# EAGLE library part WE-FLEX_EFD15 (library Eagle_WE-FLEX (rev24a))
WE-FLEX Flexible Transformer for DC/DC Converter Characteristics Transformer with 6 identical windings 4 sizes with 5 different lengths of air gap each Isolation voltage 500 VDC Low leakage inductance Operating temperature: –40 ºC to +125 ºC By using different circuits more than 375 transformer solutions and about 125 choke solutions possible. Consequently, quick prototyping possibilities Applications All kind of switching regulators - Flyback converters - Forward converters - Push-pull converters - Step-up/step-down converters - SEPIC converter <https://www.we-online.com/components/media/o14787v209%20Family_WE-FLEX.jpg> Details see: www.we-online.com/en/components/products/WE-FLEX <www.we-online.com/catalog/WE-FLEX/?utm_source=eagle_model&utm_medium=description_link&utm_campaign=eisos_eagle> Updated by Ella 2024-09-27 2024 (C) Wurth Elektronik
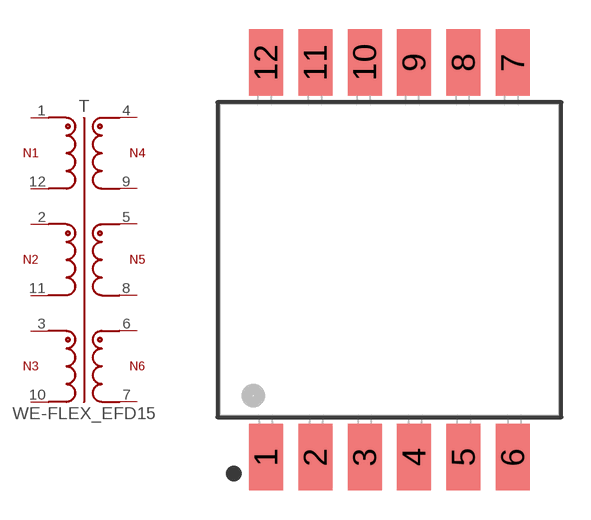
[diagram p0: symbol with the pads of WE-FLEX_EFD15; footprint WE-FLEX_EFD15]

Designator prefix T

## WE-FLEX_EFD15_749196301 (DATASHEET-URL: https://www.we-online.com/redexpert/spec/749196301?ae; HEIGHT: 8.3mm; IRBASE: 0.97A; ISATBASE: 0.02A; LENGTH: 17.5mm; LSBASE: 0.13uH; N: 1:1:1:1:1:1; PART-NUMBER: 749196301; RDCBASE: 140mOhm; SIZE: EFD15; TYPE: ungapped; VALUE: 153.8uH; VOLTAGE-USECONDBASE: 39.8uVs; VT: 500V (AC); WIDTH: 22.1mm), WE-FLEX_EFD15_749196311 (DATASHEET-URL: https://www.we-online.com/redexpert/spec/749196311?ae; HEIGHT: 8.3mm; IRBASE: 0.97A; ISATBASE: 0.33A; LENGTH: 17.5mm; LSBASE: 0.13uH; N: 1:1:1:1:1:1; PART-NUMBER: 749196311; RDCBASE: 140mOhm; SIZE: EFD15; TYPE: gapped; VALUE: 23.3uH; VOLTAGE-USECONDBASE: 39.8uVs; VT: 500V (AC); WIDTH: 22.1mm), WE-FLEX_EFD15_749196321 (DATASHEET-URL: https://www.we-online.com/redexpert/spec/749196321?ae; HEIGHT: 8.3mm; IRBASE: 0.97A; ISATBASE: 0.63A; LENGTH: 17.5mm; LSBASE: 0.13uH; N: 1:1:1:1:1:1; PART-NUMBER: 749196321; RDCBASE: 140mOhm; SIZE: EFD15; TYPE: gapped; VALUE: 14.2uH; VOLTAGE-USECONDBASE: 39.8uVs; VT: 500V (AC); WIDTH: 22.1mm), WE-FLEX_EFD15_749196331 (DATASHEET-URL: https://www.we-online.com/redexpert/spec/749196331?ae; HEIGHT: 8.3mm; IRBASE: 0.97A; ISATBASE: 1.09A; LENGTH: 17.5mm; LSBASE: 0.13uH; N: 1:1:1:1:1:1; PART-NUMBER: 749196331; RDCBASE: 140mOhm; SIZE: EFD15; TYPE: gapped; VALUE: 9.3uH; VOLTAGE-USECONDBASE: 39.8uVs; VT: 500V (AC); WIDTH: 22.1mm), WE-FLEX_EFD15_749196341 (DATASHEET-URL: https://www.we-online.com/redexpert/spec/749196341?ae; HEIGHT: 8.3mm; IRBASE: 0.97A; ISATBASE: 1.33A; LENGTH: 17.5mm; LSBASE: 0.13uH; N: 1:1:1:1:1:1; PART-NUMBER: 749196341; RDCBASE: 140mOhm; SIZE: EFD15; TYPE: gapped; VALUE: 7.9uH; VOLTAGE-USECONDBASE: 39.8uVs; VT: 500V (AC); WIDTH: 22.1mm)  [WE-FLEX_EFD15]
1  1  pas
2  2  pas
3  3  pas
4  4  pas
5  5  pas
6  6  pas
7  7  pas
8  8  pas
9  9  pas
10  10  pas
11  11  pas
12  12  pas

## Footprint WE-FLEX_EFD15 (pad centres in mm)
WE-FLEX Flexible Transformer for DC/DC Converter Size: EFD15 SMT 12pins LXWXH=17.5X22.1X8.3mm
smd 1.75 x 3.43: 1 -6.35,-10.155; 2 -3.81,-10.155; 3 -1.27,-10.155; 4 1.27,-10.155; 5 3.81,-10.155; 6 6.35,-10.155; 7 6.35,10.155; 8 3.81,10.155; 9 1.27,10.155; 10 -1.27,10.155; 11 -3.81,10.155; 12 -6.35,10.155